# Altium footprint library Small Outline Diode - 3+ Flat Leads.PcbLib: 5 footprints
Each footprint in its own frame and in the unit in brackets; x right, y up, seen from the top. Pads: shape width x height; smd on the part's side, far side on the other; paste and mask are expansions set on the pad; w line width, h text height; cw(c..) or ccw(c..) is an arc to the next point about the centre after c.
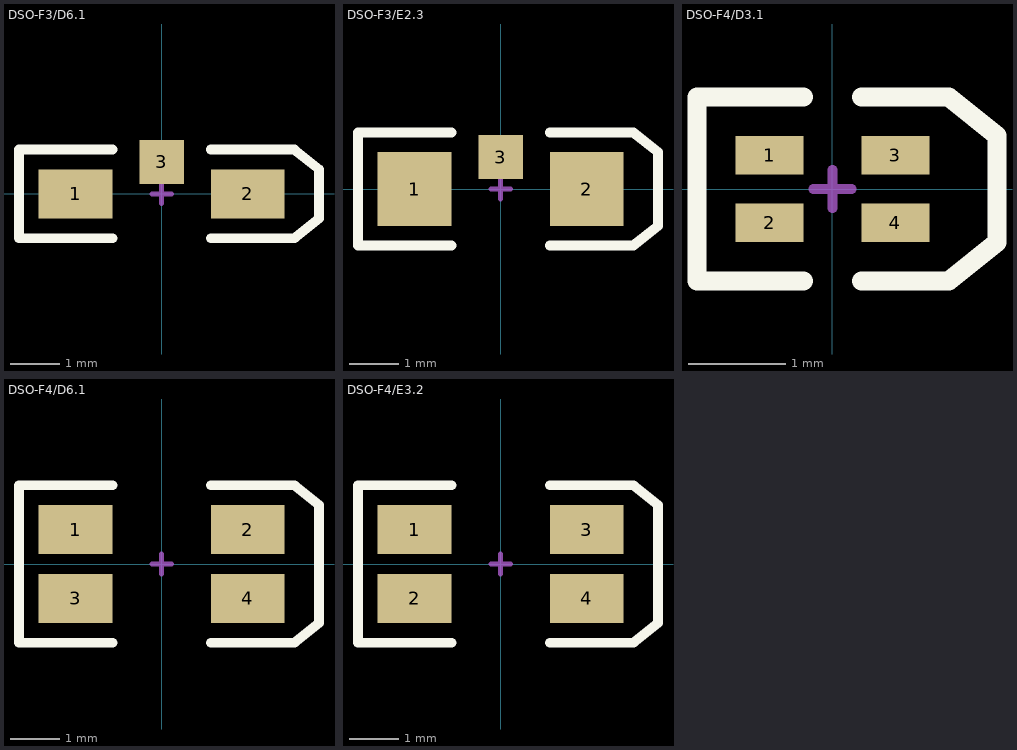
[diagram p0: the footprints below, top view; thin cyan lines are the x and y axes]

## DSO-F3/D6.1 [mm] "SM Right-Angle Mount LED; 3 Leads; Body 3.2 x 1.0 x 1.5 mm (LxWxH)"
height 1.5
pads (3):
  rect 1.5x1 smd: 1(-1.75,0) 2(1.75,0)
  rect 0.9x0.9 smd: 3(0,0.65)
Top Overlay:
  lines w0.2: -1,-0.9 -2.9,-0.9 -2.9,0.9 -1,0.9 ; 1,-0.9 2.7,-0.9 3.2,-0.5 3.2,0.5 2.7,0.9 1,0.9
Mechanical 1:
  lines w0.1: -0.2,0 0.2,0 ; 0,-0.2 0,0.2

## DSO-F3/E2.3 [mm] "SM Right-Angle Mount LED; 3 Leads; Body 3.0 x 1.0 x 2.0 mm (LxWxH)"
height 2
pads (3):
  rect 1.5x1.5 smd: 1(-1.75,0) 2(1.75,0)
  rect 0.9x0.9 smd: 3(0,0.65)
Top Overlay:
  lines w0.2: -1,-1.15 -2.9,-1.15 -2.9,1.15 -1,1.15 ; 1,-1.15 2.7,-1.15 3.2,-0.75 3.2,0.75 2.7,1.15 1,1.15
Mechanical 1:
  lines w0.1: -0.2,0 0.2,0 ; 0,-0.2 0,0.2

## DSO-F4/D3.1 [mm] "SM LED, Bi-Colour; 4 Flat Leads; Body 1.6 x 0.8 x 0.5 mm (LxWxH)"
height 0.5
pads (4):
  rect 0.7x0.4 smd: 1(-0.65,0.35) 2(-0.65,-0.35) 3(0.65,0.35) 4(0.65,-0.35)
Top Overlay:
  lines w0.2: -0.3,-0.95 -1.4,-0.95 -1.4,0.95 -0.3,0.95 ; 0.3,-0.95 1.2,-0.95 1.7,-0.55 1.7,0.55 1.2,0.95 0.3,0.95
Mechanical 1:
  lines w0.1: -0.2,0 0.2,0 ; 0,-0.2 0,0.2

## DSO-F4/D6.1 [mm] "SM LED, Bi-Colour; 4 Flat Leads; Body 3.2 x 2.7 x 1.1 mm (LxWxH)"
height 1.1
pads (4):
  rect 1.5x1 smd: 1(-1.75,0.7) 2(1.75,0.7) 3(-1.75,-0.7) 4(1.75,-0.7)
Top Overlay:
  lines w0.2: -1,-1.6 -2.9,-1.6 -2.9,1.6 -1,1.6 ; 1,-1.6 2.7,-1.6 3.2,-1.2 3.2,1.2 2.7,1.6 1,1.6
Mechanical 1:
  lines w0.1: -0.2,0 0.2,0 ; 0,-0.2 0,0.2

## DSO-F4/E3.2 [mm] "SM LED, Bi-Colour; 4 Flat Leads; Body 3.2 x 2.7 x 1.1 mm (LxWxH)"
height 1.1
pads (4):
  rect 1.5x1 smd: 1(-1.75,0.7) 2(-1.75,-0.7) 3(1.75,0.7) 4(1.75,-0.7)
Top Overlay:
  lines w0.2: -1,-1.6 -2.9,-1.6 -2.9,1.6 -1,1.6 ; 1,-1.6 2.7,-1.6 3.2,-1.2 3.2,1.2 2.7,1.6 1,1.6
Mechanical 1:
  lines w0.1: -0.2,0 0.2,0 ; 0,-0.2 0,0.2